# Altium footprint library PGS.PcbLib: 34 footprints (part 2 of 3)
Each footprint in its own frame and in the unit in brackets; x right, y up, seen from the top. Pads: shape width x height; smd on the part's side, far side on the other; paste and mask are expansions set on the pad; w line width, h text height; cw(c..) or ccw(c..) is an arc to the next point about the centre after c.
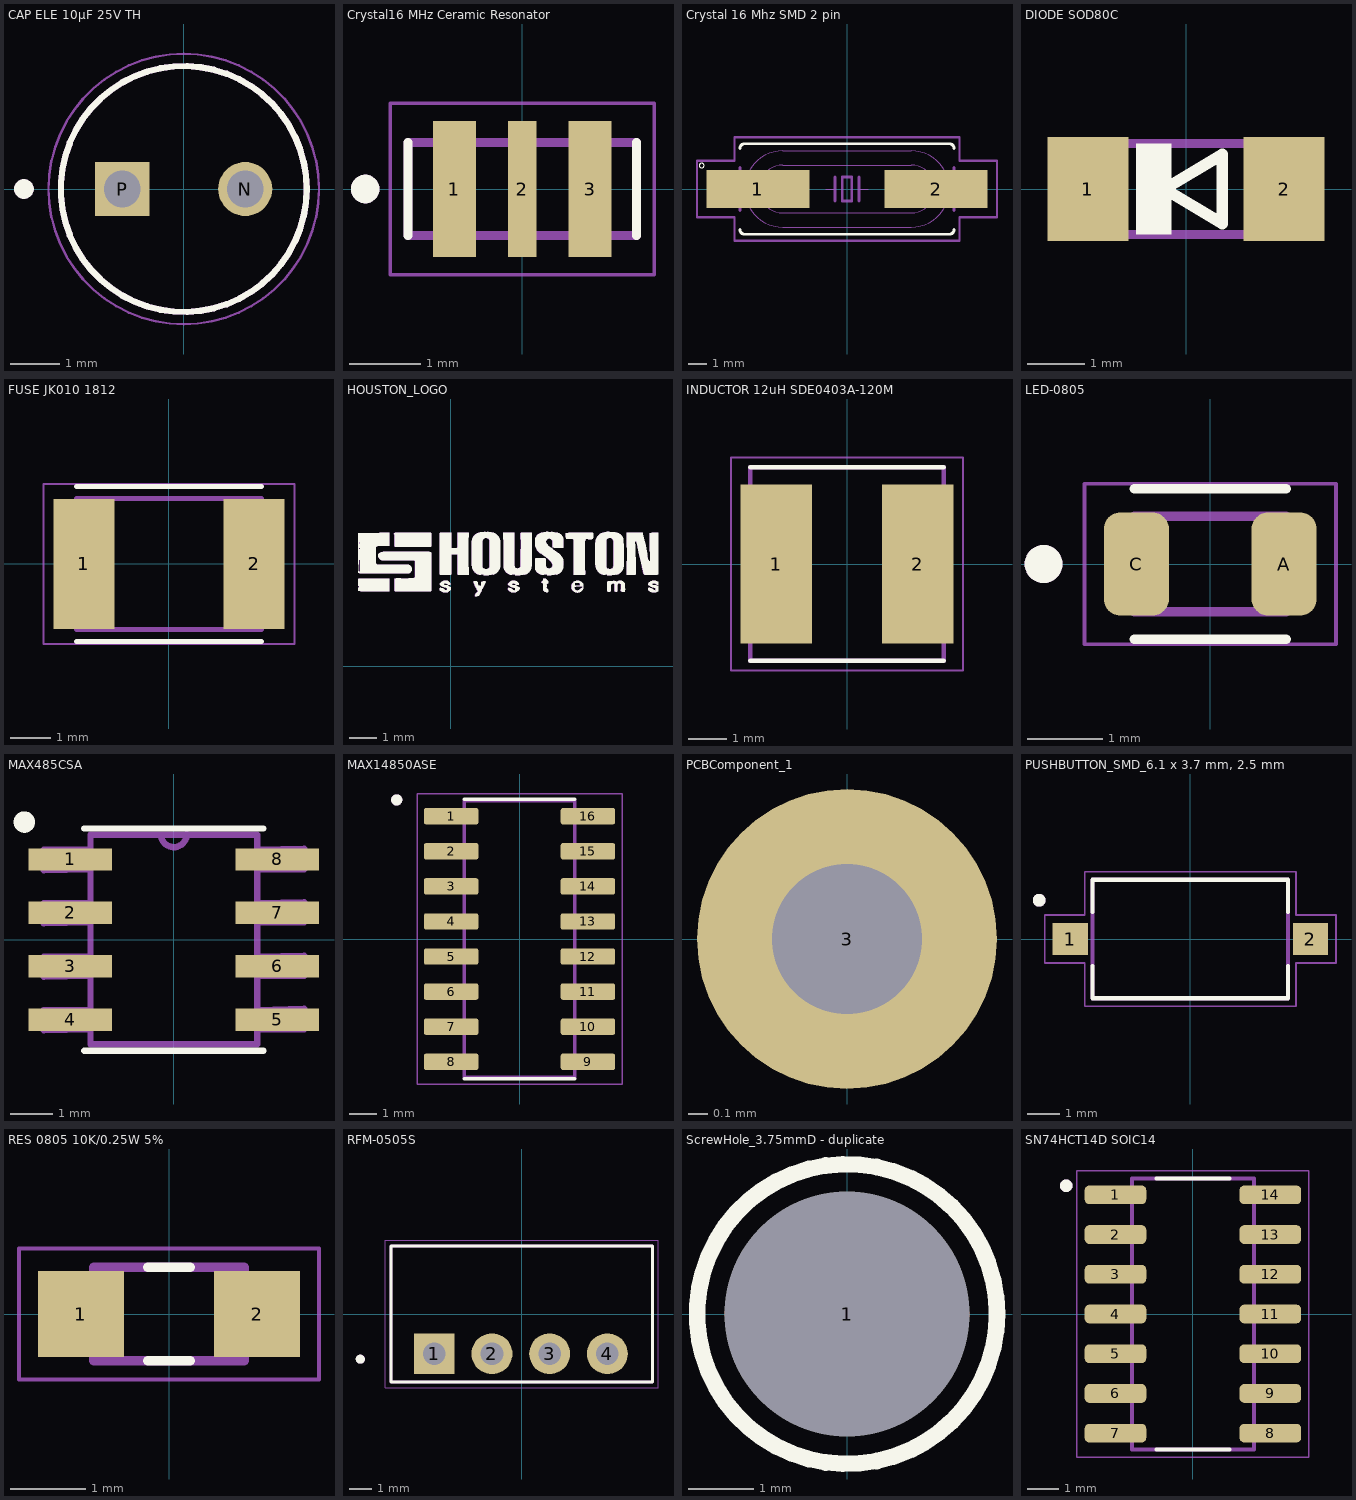
[diagram p1: the footprints below, top view; thin cyan lines are the x and y axes]

## CAP ELE 10µF 25V TH [mm] "10µF 25V Aluminum Electrolytic Capacitors Radial Lead Type THT, Dia-5mm, Pitch-2mm ECEA1EN100UI"
pads (2):
  round 1.1 hole 0.75: N(1.25,0)
  rect 1.1x1.1 hole 0.75: P(-1.25,0)
Top Overlay:
  circle w0.127: c0,0 r2.5
  circle w0.2: c-3.25,0 r0.1
Mechanical 13:
  circle w0.127: c0,0 r2.5
  circle w0.2: c-3.25,0 r0.1
Mechanical 15:
  circle w0.05: c0,0 r2.75
3D body "step_temp.STEP": height 11, standoff -17, extent -2.5,-2.498 2.5,2.498

## Crystal16 MHz Ceramic Resonator [mm] "Crystal 16 MHz Ceramic Resonator Built SMT in Capacitor 15 pF Â±0.3% -20Â°C ~ 80Â°C Surface Mount-CSTCE16M0V53-R0CSTCE16M0V53-R0"
pads (3):
  rect 0.6x1.9 smd: 1(-0.95,0) 3(0.95,0)
  rect 0.4x1.9 smd: 2(0,0)
Top Overlay:
  circle w0.2: c-2.2,0 r0.1
  lines w0.127: -1.6,-0.65 -1.6,0.65 ; 1.6,-0.65 1.6,0.65
Mechanical 13:
  circle w0.2: c-2.2,0 r0.1
  lines w0.127: -1.6,-0.65 1.6,-0.65 1.6,0.65 -1.6,0.65 -1.6,-0.65
Mechanical 15:
  lines w0.05: -1.85,-1.2 1.85,-1.2 1.85,1.2 -1.85,1.2 -1.85,-1.2
3D body "step_temp.STEP": height 1, standoff 0, extent -1.6,-0.65 1.6,0.65

## Crystal 16 Mhz SMD 2 pin [mm] "16 MHz Â±30ppm Crystal 20pF 60 Ohms HC-49/US FOXSDLF/128-20 16 Mhz Crystal SMD –CSM-4ALX(28ALX) SMT12.5mmX4.85mmX4mm"
pads (2):
  rect 5.5x2 smd: 1(-4.75,0) 2(4.75,0)
Top Overlay:
  circle w0: c-7.75,1.25 r0.127
  lines w0.152: -5.715,-2.159 ccw(c-5.461,-2.159) -5.461,-2.413 5.461,-2.413 ccw(c5.461,-2.159) 5.715,-2.159 ; -5.715,2.159 cw(c-5.461,2.159) -5.461,2.413 5.461,2.413 cw(c5.461,2.159) 5.715,2.159
Mechanical 13:
  lines w0.051: -1.143,0 -0.635,0 ; 0.635,0 1.143,0 ; -5.114,-1.136 ccw(c-3.429,0) -3.429,-2.032 3.429,-2.032 ccw(c3.429,0) 5.113,-1.136 ccw(c3.429,0) 5.114,1.136 ccw(c3.429,0) 3.429,2.032 -3.429,2.032 ccw(c-3.429,0) -5.114,1.136 ccw(c-3.429,0) -5.114,-1.136 ; -3.986,-1.141 ccw(c-3.429,0) -3.429,-1.27 3.429,-1.27 ccw(c3.429,0) 3.986,-1.141 ccw(c3.429,0) 3.986,1.141 ccw(c3.429,0) 3.429,1.27 -3.429,1.27 ccw(c-3.429,0) -3.986,1.141 ccw(c-3.429,0) -3.986,-1.141
  lines w0.152: -5.715,-1.143 -5.715,1.143 ; -5.715,-0.381 -6.477,-0.381 -6.477,0.381 -5.715,0.381 ; -0.635,-0.635 -0.635,0 -0.635,0.635 ; 0.635,-0.635 0.635,0 0.635,0.635 ; 5.715,-1.143 5.715,-0.381 ; 5.715,1.143 5.715,0.381 ; 5.715,-0.381 5.715,0.381 ; 5.715,-0.381 6.477,-0.381 6.477,0.381 5.715,0.381 ; -0.254,-0.635 -0.254,0.635 0.254,0.635 0.254,-0.635 -0.254,-0.635
Mechanical 15:
  lines w0.127: -8,-1.5 -8,1.5 -6,1.5 -6,2.75 6,2.75 6,1.5 8,1.5 8,-1.5 6,-1.5 6,-2.75 -6,-2.75 -6,-1.5 -8,-1.5
3D body "step_temp.STEP": height 4.5, standoff 0, extent -6.75,-2.5 6.75,2.5

## DIODE SOD80C [mm] "Diode Standard 75V 200mA _DC_ SMT LLDS; MiniMelf DIODE SOD80C PMLL4148L"
pads (2):
  rect 1.4x1.8 smd: 1(-1.7,0) 2(1.7,0)
Top Overlay:
  region: -0.254,-0.788 -0.864,-0.788 -0.864,0.787 -0.254,0.787
  lines w0.203: -0.373,0 0.627,0.6 0.627,-0.6 -0.373,0
Mechanical 13:
  region: -1.295,-0.865 -1.857,-0.865 -1.857,0.864 -1.295,0.864
  region: 1.854,-0.865 1.298,-0.865 1.298,0.864 1.854,0.864
  lines w0.152: -1.321,-0.787 1.321,-0.787 ; -1.321,0.787 1.321,0.787
3D body "BZT55C75-GS08.STEP": height 1.52, standoff 0, extent -1.75,-0.636 1.75,0.678

## FUSE JK010 1812 [mm] "FUSE JK010 Polymeric PTC Resettable Fuse 60V 100 mA 0.8W Ih SMT 1812 (4532 Metric), Concave HUAAN MF-MSMF010-60V"
pads (2):
  rect 1.5x3.2 smd: 1(-2.1,0) 2(2.1,0)
Top Overlay:
  lines w0.127: -2.275,-1.913 2.275,-1.913 ; -2.275,1.913 2.275,1.913
Mechanical 13:
  lines w0.127: -2.275,-1.62 -2.275,1.62 2.275,1.62 2.275,-1.62 -2.275,-1.62
Mechanical 15:
  lines w0.05: -3.1,-1.977 3.1,-1.977 3.1,1.977 -3.1,1.977 -3.1,-1.977
3D body "step_temp.STEP": height 0.85, standoff 0, extent -2.275,-1.62 2.275,1.62

## HOUSTON_LOGO [mm]
Top Overlay:
  drawing of 26 lines, arcs and shapes, not listed
Mechanical 13:
  drawing of 26 lines, arcs and shapes, not listed

## INDUCTOR 12uH SDE0403A-120M [mm] "INDUCTOR_2020(5.5mmX4.5mm)  SMT INDUCTOR 12uH SDE0403A-120M LQH5BPB4R7NT0L"
pads (2):
  rect 1.85x4.1 smd: 1(-1.825,0) 2(1.825,0)
Top Overlay:
  lines w0.127: -2.5,-2.5 2.5,-2.5 ; -2.5,2.5 2.5,2.5
Mechanical 13:
  lines w0.127: -2.5,-2.5 2.5,-2.5 2.5,2.5 -2.5,2.5 -2.5,-2.5
Mechanical 15:
  lines w0.05: -3,-2.75 3,-2.75 3,2.75 -3,2.75 -3,-2.75
3D body "LQH5BPN100M38L.STEP": height 4, standoff 0, extent -2.45,-2.45 2.45,2.45

## LED-0805 [mm] "Red 640nm LED Indication - Discrete 1.85V 0805 (2012 Metric) SMT APT2012SRCPRV"
pads (2):
  rrect50% 0.86x1.36 smd: A(0.975,0) C(-0.975,0)
Top Overlay:
  circle w0.3: c-2.2,0 r0.1
  lines w0.127: -1,-0.995 1,-0.995 ; -1,0.995 1,0.995
Mechanical 13:
  circle w0.3: c-2.2,0 r0.1
  lines w0.127: -1,-0.63 1,-0.63 1,0.63 -1,0.63 -1,-0.63
Mechanical 15:
  lines w0.05: -1.66,-1.059 1.66,-1.059 1.66,1.059 -1.66,1.059 -1.66,-1.059
3D body "step_temp.STEP": height 0.75, standoff 0, extent -1,-0.625 1,0.625

## MAX485CSA [mil] "MAX485CSA-RS-485/RS-422 Transceivers, SOIC-8 SMT"
pads (8):
  rect 78x21 smd: 1(-97,75) 2(-97,25) 3(-97,-25) 4(-97,-75) 5(97,-75) 6(97,-25) 7(97,25) 8(97,75)
Top Overlay:
  circle w10: c-140,110 r5
  lines w6: -84,-104 84,-104 ; -84,104 84,104
Mechanical 13:
  lines w6: -12,98.08 ccw(c0,98.5) 12,98.92 ; -122,-85 -78,-84 -78,-66 -122,-66 -122,-85 ; -122,-35 -78,-34 -78,-16 -122,-16 -122,-35 ; -122,15 -78,16 -78,34 -122,34 -122,15 ; -122,65 -78,66 -78,84 -122,84 -122,65 ; -78,-98 -78,98 -12,98 78,98 78,-98 -78,-98 ; 78,-84 122,-84 122,-65 78,-66 78,-84 ; 78,-34 122,-34 122,-15 78,-16 78,-34 ; 78,16 122,16 122,35 78,34 78,16 ; 78,66 122,66 122,85 78,84 78,66
3D body "step_temp.STEP": height 68.9, standoff 0, extent -118.11,-96.46 118.11,96.46

## MAX14850ASE [mm] "MAX14850ASE SOIC16 Six-Channel SMT Digital Isolator SOIC127P600X175-16N"
pads (16):
  rrect25% 1.97x0.59 smd: 1(-2.475,4.445) 2(-2.475,3.175) 3(-2.475,1.905) 4(-2.475,0.635) 5(-2.475,-0.635) 6(-2.475,-1.905) 7(-2.475,-3.175) 8(-2.475,-4.445) 9(2.475,-4.445) 10(2.475,-3.175) 11(2.475,-1.905) 12(2.475,-0.635) 13(2.475,0.635) 14(2.475,1.905) 15(2.475,3.175) 16(2.475,4.445)
Top Overlay:
  circle w0.2: c-4.445,5.035 r0.1
  lines w0.127: -2,-5.06 2,-5.06 ; -2,5.06 2,5.06
Mechanical 13:
  circle w0.2: c-4.445,5.035 r0.1
  lines w0.127: -2,-5 2,-5 2,5 -2,5 -2,-5
Mechanical 15:
  lines w0.05: -3.71,-5.25 3.71,-5.25 3.71,5.25 -3.71,5.25 -3.71,-5.25
3D body "step_temp.STEP": height 1.75, standoff 0, extent -3,-4.95 3,4.95

## PCBComponent_1 [mil]
pads (1):
  round 60 hole 30: 3(0,0)

## PUSHBUTTON_SMD_6.1 x 3.7 mm, 2.5 mm [mm] "6.1 x 3.7 mm, 2.5 mm Actuator Height, 260 gf, Red, SMT, SPST, Tactile Switch, TS09-63-25-R-260-SMT-TR"
height 2.5
pads (2):
  rect 1.1x1 smd: 1(-3.75,0) 2(3.75,0)
Top Overlay:
  circle w0.2: c-4.72,1.21 r0.1
  lines w0.127: -3.05,-0.85 -3.05,-1.85 3.05,-1.85 3.05,-0.85 ; -3.05,0.85 -3.05,1.85 3.05,1.85 3.05,0.85
Mechanical 13:
  circle w0.2: c-4.72,1.21 r0.1
  lines w0.127: -3.05,-1.85 3.05,-1.85 3.05,1.85 -3.05,1.85 -3.05,-1.85
Mechanical 15:
  lines w0.05: -4.55,-0.75 -4.55,0.75 -3.3,0.75 -3.3,2.1 3.3,2.1 3.3,0.75 4.55,0.75 4.55,-0.75 3.3,-0.75 3.3,-2.1 -3.3,-2.1 -3.3,-0.75 -4.55,-0.75
3D body "step_temp.STEP": height 2.5, standoff -0.05, extent -4.05,-1.85 4.05,1.85

## RES 0805 10K/0.25W 5% [mm] "RESISTOR, THICK FILM, 10K, 5%, 0805, SMT FULL REEL Product Range:PANASONIC - ERJ Series"
height 0.55
pads (2):
  rect 1.15x1.15 smd: 1(-1.175,0) 2(1.175,0)
Top Overlay:
  lines w0.127: -0.28,-0.625 0.28,-0.625 ; -0.28,0.625 0.28,0.625
Mechanical 13:
  lines w0.127: -1,-0.625 -1,0.625 1,0.625 1,-0.625 -1,-0.625
Mechanical 15:
  lines w0.05: -2,-0.875 -2,0.875 2,0.875 2,-0.875 -2,-0.875
3D body "step_temp.STEP": height 0.7, standoff 0, extent -1,-0.625 1,0.625

## RFM-0505S [mm] "DC-DC Converter/Isolator, SIP4, THT S/T 1kV unreg, Single Output, 1W, 5V Out, RFM Series RFM-0505S"
height 10
pads (4):
  rect 1.8x1.8 hole 1: 1(-3.85,-1.75)
  round 1.8 hole 1: 2(-1.31,-1.75) 3(1.23,-1.75) 4(3.77,-1.75)
Top Overlay:
  circle w0.2: c-7.11,-1.99 r0.1
  lines w0.127: -5.75,-3 5.75,-3 5.75,3 -5.75,3 -5.75,-3
Mechanical 13:
  circle w0.2: c-7.1,-1.99 r0.1
  lines w0.127: -5.75,-3 5.75,-3 5.75,3 -5.75,3 -5.75,-3
Mechanical 15:
  lines w0.05: -6,-3.25 6,-3.25 6,3.25 -6,3.25 -6,-3.25
3D body "step_temp.STEP": height 10, standoff -4.1, extent -5.75,-3 5.75,3

## ScrewHole_3.75mmD - duplicate [mm] "SCREW HEAD DIA 4.5MM, SREW LEG DIA 3 MM"
pads (1):
  round 3.75 hole 3.75 unplated: 1(0,0)
Top Overlay:
  circle w0.254: c0,0 r2.3

## SN74HCT14D SOIC14 [mm] "SN74HCT14D SOIC14 6-ch, 4.5V to 5.5V SMT inverters with Schmitt-Trigger inputs"
pads (14):
  rrect50% 1.97x0.6 smd: 1(-2.475,3.81) 2(-2.475,2.54) 3(-2.475,1.27) 4(-2.475,0) 5(-2.475,-1.27) 6(-2.475,-2.54) 7(-2.475,-3.81) 8(2.475,-3.81) 9(2.475,-2.54) 10(2.475,-1.27) 11(2.475,0) 12(2.475,1.27) 13(2.475,2.54) 14(2.475,3.81)
Top Overlay:
  circle w0.2: c-4.05,4.1 r0.1
  lines w0.127: -1.17,-4.325 1.17,-4.325 ; -1.17,4.325 1.17,4.325
Mechanical 13:
  circle w0.2: c-4.05,4.1 r0.1
  lines w0.127: -1.95,-4.325 -1.95,4.325 1.95,4.325 1.95,-4.325 -1.95,-4.325
Mechanical 15:
  lines w0.05: -3.71,-4.575 -3.71,4.575 3.71,4.575 3.71,-4.575 -3.71,-4.575
3D body "step_temp.STEP": height 1.75, standoff 0, extent -3,-4.325 3,4.325